# Altium footprint library TPS3831A09DQNT.PcbLib: 3 footprints
Each footprint in its own frame and in the unit in brackets; x right, y up, seen from the top. Pads: shape width x height; smd on the part's side, far side on the other; paste and mask are expansions set on the pad; w line width, h text height; cw(c..) or ccw(c..) is an arc to the next point about the centre after c.
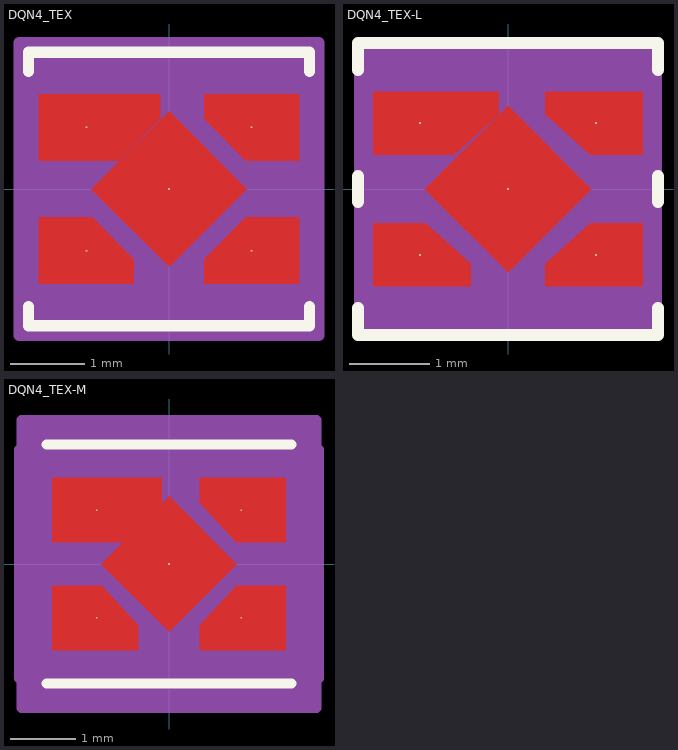
[diagram p0: the footprints below, top view; thin cyan lines are the x and y axes]

## DQN4_TEX [mil]
pads (5):
  rect 1x1 smd paste+0 mask+0: 1(-43.5,32.5) 2(-43.5,-32.5) 3(43.5,-32.5) 4(43.5,32.5) 5(0,0)
Top Layer:
  region: -4.5,50 -68.5,50 -68.5,15 -26.5,15 -4.5,37
  region: -40.5,-15 -68.5,-15 -68.5,-50 -18.5,-50 -18.5,-37
  region: 40.5,-15 68.5,-15 68.5,-50 18.5,-50 18.5,-37
  region: 18.5,50 68.5,50 68.5,15 40.5,15 18.5,37
  region: 41,0 0,41 -41,0 0,-41
Top Overlay:
  lines w6: -74,-61.89 -74,-72 74,-72 74,-61.89 ; -74,61.89 -74,72 74,72 74,61.89
Top Paste:
  region: -4.5,50 -68.5,50 -68.5,15 -26.5,15 -4.5,37
  region: -40.5,-15 -68.5,-15 -68.5,-50 -18.5,-50 -18.5,-37
  region: 40.5,-15 68.5,-15 68.5,-50 18.5,-50 18.5,-37
  region: 18.5,50 68.5,50 68.5,15 40.5,15 18.5,37
  region: 41,0 0,41 -41,0 0,-41
Top Solder:
  region: -4.5,50 -68.5,50 -68.5,15 -26.5,15 -4.5,37
  region: -40.5,-15 -68.5,-15 -68.5,-50 -18.5,-50 -18.5,-37
  region: 40.5,-15 68.5,-15 68.5,-50 18.5,-50 18.5,-37
  region: 18.5,50 68.5,50 68.5,15 40.5,15 18.5,37
  region: 41,0 0,41 -41,0 0,-41
Mechanical 13:
  lines w1: -69,-67 69,-67 69,67 -69,67 -69,-67
Mechanical 15:
  region: -79,-67 -79,67 -79,77 79,77 79,67 79,-67 79,-77 -79,-77
  lines w6: -79,-67 -79,67 ; -79,-67 -79,-67 ; -79,-67 -79,-77 79,-77 79,-67 ; -79,67 -79,67 ; -79,67 -79,77 79,77 79,67 ; 79,-67 79,67 ; 79,-67 79,-67 ; 79,67 79,67

## DQN4_TEX-L [mil]
pads (5):
  rect 1x1 smd paste+0 mask+0: 1(-43.5,32.5) 2(-43.5,-32.5) 3(43.5,-32.5) 4(43.5,32.5) 5(0,0)
Top Layer:
  region: -4.5,48 -66.5,48 -66.5,17 -26.5,17 -4.5,37
  region: -40.5,-17 -66.5,-17 -66.5,-48 -18.5,-48 -18.5,-37
  region: 40.5,-17 66.5,-17 66.5,-48 18.5,-48 18.5,-37
  region: 18.5,48 66.5,48 66.5,17 40.5,17 18.5,37
  region: 41,0 0,41 -41,0 0,-41
Top Overlay:
  lines w6: -74,-58.74 -74,-72 74,-72 74,-58.74 ; -74,-6.26 -74,6.26 ; -74,58.74 -74,72 74,72 74,58.74 ; 74,-6.26 74,6.26
Top Paste:
  region: -4.5,48 -66.5,48 -66.5,17 -26.5,17 -4.5,37
  region: -40.5,-17 -66.5,-17 -66.5,-48 -18.5,-48 -18.5,-37
  region: 40.5,-17 66.5,-17 66.5,-48 18.5,-48 18.5,-37
  region: 18.5,48 66.5,48 66.5,17 40.5,17 18.5,37
  region: 41,0 0,41 -41,0 0,-41
Top Solder:
  region: -4.5,48 -66.5,48 -66.5,17 -26.5,17 -4.5,37
  region: -40.5,-17 -66.5,-17 -66.5,-48 -18.5,-48 -18.5,-37
  region: 40.5,-17 66.5,-17 66.5,-48 18.5,-48 18.5,-37
  region: 18.5,48 66.5,48 66.5,17 40.5,17 18.5,37
  region: 41,0 0,41 -41,0 0,-41
Mechanical 13:
  lines w1: -69,-67 69,-67 69,67 -69,67 -69,-67
Mechanical 15:
  region: -73,-65.8 -73,65.8 -73,71 73,71 73,65.8 73,-65.8 73,-71 -73,-71
  lines w6: -73,-65.8 -73,65.8 ; -73,-65.8 -73,-65.8 ; -73,-65.8 -73,-71 73,-71 73,-65.8 ; -73,65.8 -73,65.8 ; -73,65.8 -73,71 73,71 73,65.8 ; 73,-65.8 73,65.8 ; 73,-65.8 73,-65.8 ; 73,65.8 73,65.8

## DQN4_TEX-M [mil]
pads (5):
  rect 1x1 smd paste+0 mask+0: 1(-43.5,32.5) 2(-43.5,-32.5) 3(43.5,-32.5) 4(43.5,32.5) 5(0,0)
Top Layer:
  region: -4.5,52 -70.5,52 -70.5,13 -26.5,13 -4.5,37
  region: -40.5,-13 -70.5,-13 -70.5,-52 -18.5,-52 -18.5,-37
  region: 40.5,-13 70.5,-13 70.5,-52 18.5,-52 18.5,-37
  region: 18.5,52 70.5,52 70.5,13 40.5,13 18.5,37
  region: 41,0 0,41 -41,0 0,-41
Top Overlay:
  lines w6: -74,-72 74,-72 ; -74,72 74,72
Top Paste:
  region: -4.5,52 -70.5,52 -70.5,13 -26.5,13 -4.5,37
  region: -40.5,-13 -70.5,-13 -70.5,-52 -18.5,-52 -18.5,-37
  region: 40.5,-13 70.5,-13 70.5,-52 18.5,-52 18.5,-37
  region: 18.5,52 70.5,52 70.5,13 40.5,13 18.5,37
  region: 41,0 0,41 -41,0 0,-41
Top Solder:
  region: -4.5,52 -70.5,52 -70.5,13 -26.5,13 -4.5,37
  region: -40.5,-13 -70.5,-13 -70.5,-52 -18.5,-52 -18.5,-37
  region: 40.5,-13 70.5,-13 70.5,-52 18.5,-52 18.5,-37
  region: 18.5,52 70.5,52 70.5,13 40.5,13 18.5,37
  region: 41,0 0,41 -41,0 0,-41
Mechanical 13:
  lines w1: -69,-67 69,-67 69,67 -69,67 -69,-67
Mechanical 15:
  region: -89,-69 -90.5,-69 -90.5,69 -89,69 -89,87 89,87 89,69 90.5,69 90.5,-69 89,-69 89,-87 -89,-87
  lines w6: -90.5,-69 -90.5,69 -89,69 -89,87 89,87 89,69 90.5,69 90.5,-69 89,-69 89,-87 -89,-87 -89,-69 -90.5,-69